# EAGLE library part TPS54302DDCR_LCSC (library lcsc_parts)
Description: Buck Switching Regulator IC Adjustable 1 Output 3A TSOT-23-6 Manufacturer: TI MPN: TPS54302DDCR LCSC Part: C311983 Category: Voltage Regulators - DC DC Switching Regulators Datasheet: https://datasheet.lcsc.com/datasheet/pdf/dd7a4984f2d3ca9a2264b937537aa471.pdf?productCode=C311983
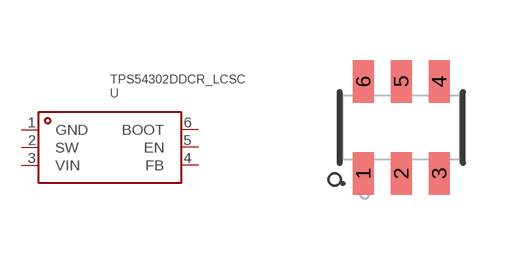
[diagram p30: symbol with the pads of SOT-23-6_L2.9-W1.6-P0.95-LS2.8-BL; footprint SOT-23-6_L2.9-W1.6-P0.95-LS2.8-BL]

Designator prefix U

## TPS54302DDCR_LCSC (CATEGORY: Voltage Regulators - DC DC Switching Regulators; DATASHEET: https://datasheet.lcsc.com/datasheet/pdf/dd7a4984f2d3ca9a2264b937537aa471.pdf?productCode=C311983; DESCRIPTION: Buck Switching Regulator IC Adjustable 1 Output 3A TSOT-23-6; FEATURES: Cycle-by-cycle current limiting;Hiccup current limiting;EMI optimization (spread spectrum);Light load efficient mode;Overcurrent Protection; FREQUENCY_SWITCHING: 400kHz; FUNCTION: Step-down type; LCSC_PART: C311983; LCSC_STOCK: 58575; MANUFACTURER: TI; MPN: TPS54302DDCR; NUMBER_OF_OUTPUTS: 1; OPERATING_TEMPERATURE: -40℃~+125℃@(TJ); OPERATING_VOLTAGE: 4.5V~28V; OUTPUT_CURRENT: 3A; OUTPUT_TYPE: Adjustable; PARTNO: TPS54302DDCR; PRICING_1000: $0.1774/unit @ 1000; PRICING_50: $0.2126/unit @ 50; QUIESCENT_CURRENT: 45uA; SWITCH_TUBE_BUILT_IN_EXTERNAL: Built-in; TOPOLOGY: Buck)  [SOT-23-6_L2.9-W1.6-P0.95-LS2.8-BL]
1  GND
2  SW
3  VIN
4  FB
5  EN
6  BOOT

## Footprint SOT-23-6_L2.9-W1.6-P0.95-LS2.8-BL (pad centres in mm)
smd 0.532 x 1.072: 1 -0.95,-1.15; 2 0,-1.15; 3 0.95,-1.15; 4 0.95,1.15; 5 0,1.15; 6 -0.95,1.15